# Altium integrated library TI_Logic_Flip-Flop,Latch,Register.IntLib: 2598 symbols (part 69 of 122)
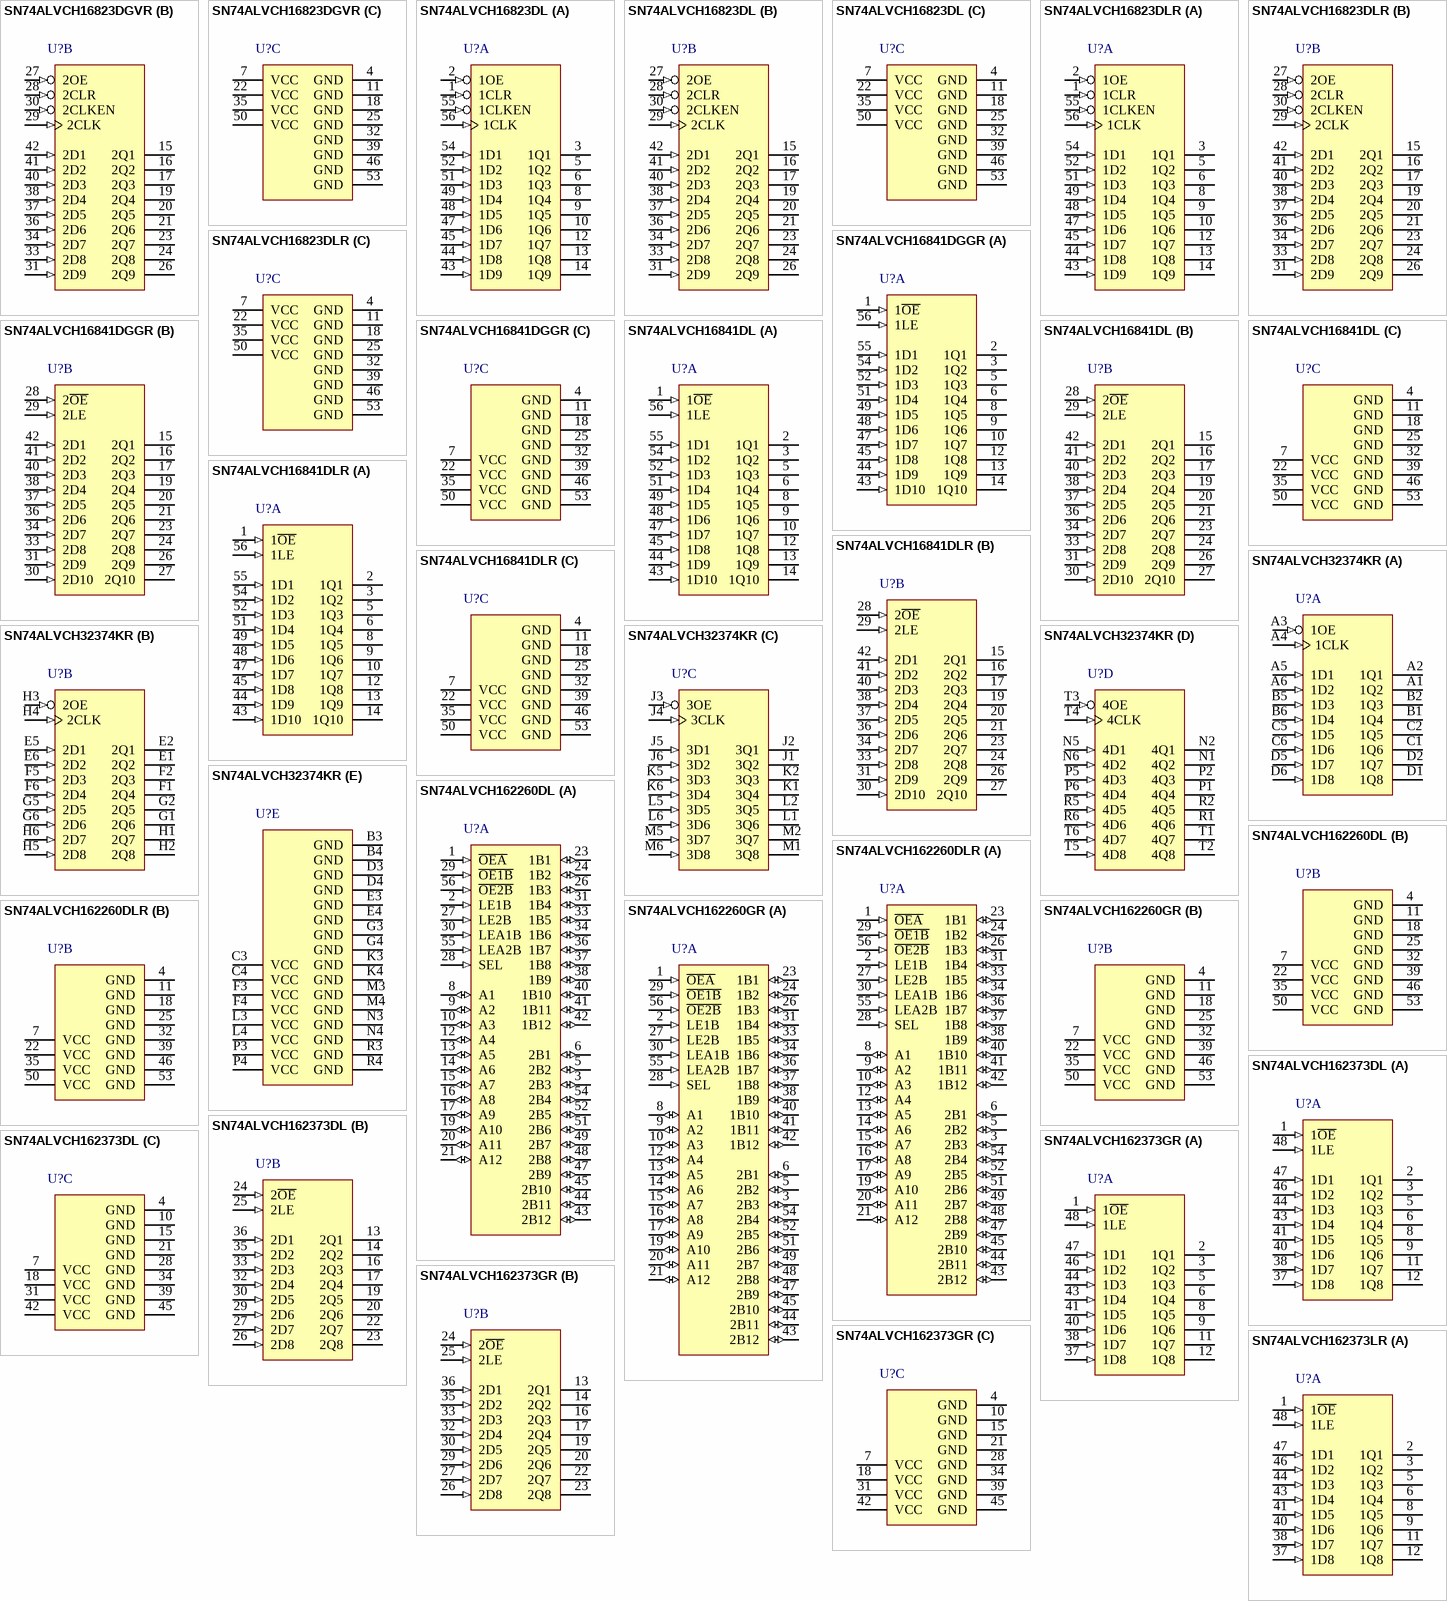
[diagram p207: symbols SN74ALVCH16823DGVR to SN74ALVCH162373LR]

## SN74ALVCH16841DLR
designator U?
20-Bit Bus-Interface D-Type Latch With 3-State Outputs, DL0056A, LARGE T&R; Generic Part Number: SN74ALVCH16841; Manufacturer: Texas Instruments; PartNumber: SN74ALVCH16841DLR; VCC(Min)(V): 1.65; VCC(Max)(V): 3.6; Output Type: LVTTL; Logic: True; Static Current: 0.04; Bits(#): 20; F @ Nom Voltage(Max)(Mhz): 150; Rating: Catalog; Technology Family: ALVC; Voltage(Nom)(V): 1.8,2.5,2.7,3.3; Schmitt Trigger: No; Output Drive (IOL/IOH)(Max)(mA): 24/-24; Output Logic: Non-inverted; 3-State Output: Yes; tpd @ Nom Voltage(Max)(ns): 5,4.7,3.9; DatasheetVersion: SCES043E; PackageReference: DL0056A; Supplier 1: Digi-Key; Supplier Part Number 1: SN74ALVCH16841DLR-ND; Supplier 2: Mouser; Supplier Part Number 2: 595-74ALVCH16841DLR; ICC @ Nom Voltage(Max)(mA): 0.04; Input Type: LVTTL; Operating Temperature Range(C): -40 to 85; Code_JEDEC: MO-118; ComponentLink1Description: Manufacturer URL; ComponentLink1URL: http://www.ti.com/; ComponentLink2Description: Datasheet; ComponentLink2URL: http://www.ti.com/lit/ds/symlink/sn74alvch16841.pdf; ComponentLink3Description: Package Specification; ComponentLink3URL: http://www.ti.com/lit/ml/mpds491/mpds491.pdf
footprint DL0056A_N (SOP, 56-Leads, Body 7.6x18.5mm, Pitch 0.635mm, IPC Medium Density)
footprint DL0056A_M (SOP, 56-Leads, Body 7.6x18.5mm, Pitch 0.635mm, IPC Low Density)
footprint DL0056A_L (SOP, 56-Leads, Body 7.6x18.5mm, Pitch 0.635mm, IPC High Density)
part A pins: 1 1~{OE} (in) "Output Enable Input (Active LOW)", 2 1Q1 (hiz) "Three-State Outputs", 3 1Q2 (hiz) "Three-State Outputs", 5 1Q3 (hiz) "Three-State Outputs", 6 1Q4 (hiz) "Three-State Outputs", 8 1Q5 (hiz) "Three-State Outputs", 9 1Q6 (hiz) "Three-State Outputs", 10 1Q7 (hiz) "Three-State Outputs", 12 1Q8 (hiz) "Three-State Outputs", 13 1Q9 (hiz) "Three-State Outputs", 14 1Q10 (hiz) "Three-State Outputs", 43 1D10 (in) "Data Inputs", 44 1D9 (in) "Data Inputs", 45 1D8 (in) "Data Inputs", 47 1D7 (in) "Data Inputs", 48 1D6 (in) "Data Inputs", 49 1D5 (in) "Data Inputs", 51 1D4 (in) "Data Inputs", 52 1D3 (in) "Data Inputs", 54 1D2 (in) "Data Inputs", 55 1D1 (in) "Data Inputs", 56 1LE (in) "Latch Enable Input (Active HIGH)"
part B pins: 15 2Q1 (hiz) "Three-State Outputs", 16 2Q2 (hiz) "Three-State Outputs", 17 2Q3 (hiz) "Three-State Outputs", 19 2Q4 (hiz) "Three-State Outputs", 20 2Q5 (hiz) "Three-State Outputs", 21 2Q6 (hiz) "Three-State Outputs", 23 2Q7 (hiz) "Three-State Outputs", 24 2Q8 (hiz) "Three-State Outputs", 26 2Q9 (hiz) "Three-State Outputs", 27 2Q10 (hiz) "Three-State Outputs", 28 2~{OE} (in) "Output Enable Input (Active LOW)", 29 2LE (in) "Latch Enable Input (Active HIGH)", 30 2D10 (in) "Data Inputs", 31 2D9 (in) "Data Inputs", 33 2D8 (in) "Data Inputs", 34 2D7 (in) "Data Inputs", 36 2D6 (in) "Data Inputs", 37 2D5 (in) "Data Inputs", 38 2D4 (in) "Data Inputs", 40 2D3 (in) "Data Inputs", 41 2D2 (in) "Data Inputs", 42 2D1 (in) "Data Inputs"
part C pins: 4 GND (power), 7 VCC (power), 11 GND (power), 18 GND (power), 22 VCC (power), 25 GND (power), 32 GND (power), 35 VCC (power), 39 GND (power), 46 GND (power), 50 VCC (power), 53 GND (power)

## SN74ALVCH32374KR
designator U?
32-Bit Edge-Triggered D-Type Flip-Flop With 3-State Outputs, GKE0096A, LARGE T&R; Generic Part Number: SN74ALVCH32374; Manufacturer: Texas Instruments; PartNumber: SN74ALVCH32374KR; DatasheetVersion: SCES283D; PackageReference: GKE0096A; Supplier 1: Digi-Key; Supplier Part Number 1: 296-6281-2-ND; Supplier 2: Digi-Key; Supplier Part Number 2: 296-6281-1-ND; Supplier 3: Mouser; Supplier Part Number 3: 595-SN74ALVCH32374KR; Code_JEDEC: MO-205; ComponentLink1Description: Manufacturer URL; ComponentLink1URL: http://www.ti.com/; ComponentLink2Description: Datasheet; ComponentLink2URL: http://www.ti.com/lit/ds/symlink/sn74alvch32374.pdf; ComponentLink3Description: Package Specification; ComponentLink3URL: http://www.ti.com/lit/ml/mpbg095d/mpbg095d.pdf
footprint GKE0096A (BGA, 96-Balls, Body 13.5x5.5mm, Pitch 0.8mm)
part A pins: A1 1Q2 (hiz), A2 1Q1 (hiz), A3 1OE (in), A4 1CLK (in), A5 1D1 (in), A6 1D2 (in), B1 1Q4 (hiz), B2 1Q3 (hiz), B5 1D3 (in), B6 1D4 (in), C1 1Q6 (hiz), C2 1Q5 (hiz), C5 1D5 (in), C6 1D6 (in), D1 1Q8 (hiz), D2 1Q7 (hiz), D5 1D7 (in), D6 1D8 (in)
part B pins: E1 2Q2 (hiz), E2 2Q1 (hiz), E5 2D1 (in), E6 2D2 (in), F1 2Q4 (hiz), F2 2Q3 (hiz), F5 2D3 (in), F6 2D4 (in), G1 2Q6 (hiz), G2 2Q5 (hiz), G5 2D5 (in), G6 2D6 (in), H1 2Q7 (hiz), H2 2Q8 (hiz), H3 2OE (in), H4 2CLK (in), H5 2D8 (in), H6 2D7 (in)
part C pins: J1 3Q2 (hiz), J2 3Q1 (hiz), J3 3OE (in), J4 3CLK (in), J5 3D1 (in), J6 3D2 (in), K1 3Q4 (hiz), K2 3Q3 (hiz), K5 3D3 (in), K6 3D4 (in), L1 3Q6 (hiz), L2 3Q5 (hiz), L5 3D5 (in), L6 3D6 (in), M1 3Q8 (hiz), M2 3Q7 (hiz), M5 3D7 (in), M6 3D8 (in)
part D pins: N1 4Q2 (hiz), N2 4Q1 (hiz), N5 4D1 (in), N6 4D2 (in), P1 4Q4 (hiz), P2 4Q3 (hiz), P5 4D3 (in), P6 4D4 (in), R1 4Q6 (hiz), R2 4Q5 (hiz), R5 4D5 (in), R6 4D6 (in), T1 4Q7 (hiz), T2 4Q8 (hiz), T3 4OE (in), T4 4CLK (in), T5 4D8 (in), T6 4D7 (in)
part E pins: B3 GND (power), B4 GND (power), C3 VCC (power), C4 VCC (power), D3 GND (power), D4 GND (power), E3 GND (power), E4 GND (power), F3 VCC (power), F4 VCC (power), G3 GND (power), G4 GND (power), K3 GND (power), K4 GND (power), L3 VCC (power), L4 VCC (power), M3 GND (power), M4 GND (power), N3 GND (power), N4 GND (power), P3 VCC (power), P4 VCC (power), R3 GND (power), R4 GND (power)

## SN74ALVCH162260DL
designator U?
12-Bit To 24-Bit Multiplexed D-Type Latch With 3-State Outputs, DL0056A, TUBE; Generic Part Number: SN74ALVCH162260; Manufacturer: Texas Instruments; PartNumber: SN74ALVCH162260DL; VCC(Min)(V): 1.65; VCC(Max)(V): 3.6; Output Type: LVTTL; Logic: True; Static Current: 0.04; Bits(#): 12; F @ Nom Voltage(Max)(Mhz): 150; Rating: Catalog; Technology Family: ALVC; Voltage(Nom)(V): 1.8,2.5,2.7,3.3; Schmitt Trigger: No; Output Drive (IOL/IOH)(Max)(mA): 24/-24; Output Logic: Non-inverted; 3-State Output: Yes; tpd @ Nom Voltage(Max)(ns): 5.9,5.8,4.9; DatasheetVersion: SCAS570I; PackageReference: DL0056A; Supplier 1: Digi-Key; Supplier Part Number 1: 296-5176-5-ND; Supplier 2: Mouser; Supplier Part Number 2: 595-74ALVCH162260DL; ICC @ Nom Voltage(Max)(mA): 0.04; Input Type: LVTTL; Operating Temperature Range(C): -40 to 85; Code_JEDEC: MO-118; ComponentLink1Description: Manufacturer URL; ComponentLink1URL: http://www.ti.com/; ComponentLink2Description: Datasheet; ComponentLink2URL: http://www.ti.com/lit/ds/symlink/sn74alvch162260.pdf; ComponentLink3Description: Package Specification; ComponentLink3URL: http://www.ti.com/lit/ml/mpds491/mpds491.pdf
footprint DL0056A_N (SOP, 56-Leads, Body 7.6x18.5mm, Pitch 0.635mm, IPC Medium Density)
footprint DL0056A_M (SOP, 56-Leads, Body 7.6x18.5mm, Pitch 0.635mm, IPC Low Density)
footprint DL0056A_L (SOP, 56-Leads, Body 7.6x18.5mm, Pitch 0.635mm, IPC High Density)
part A pins: 1 ~{OEA} (in), 2 LE1B (in), 3 2B3 (io), 5 2B2 (io), 6 2B1 (io), 8 A1 (io), 9 A2 (io), 10 A3 (io), 12 A4 (io), 13 A5 (io), 14 A6 (io), 15 A7 (io), 16 A8 (io), 17 A9 (io), 19 A10 (io), 20 A11 (io), 21 A12 (io), 23 1B1 (io), 24 1B2 (io), 26 1B3 (io), 27 LE2B (in), 28 SEL (in), 29 ~{OE1B} (in), 30 LEA1B (in), 31 1B4 (io), 33 1B5 (io), 34 1B6 (io), 36 1B7 (io), 37 1B8 (io), 38 1B9 (io), 40 1B10 (io), 41 1B11 (io), 42 1B12 (io), 43 2B12 (io), 44 2B11 (io), 45 2B10 (io), 47 2B9 (io), 48 2B8 (io), 49 2B7 (io), 51 2B6 (io), 52 2B5 (io), 54 2B4 (io), 55 LEA2B (in), 56 ~{OE2B} (in)
part B pins: 4 GND (power), 7 VCC (power), 11 GND (power), 18 GND (power), 22 VCC (power), 25 GND (power), 32 GND (power), 35 VCC (power), 39 GND (power), 46 GND (power), 50 VCC (power), 53 GND (power)

## SN74ALVCH162260DLR
designator U?
12-Bit To 24-Bit Multiplexed D-Type Latch With 3-State Outputs, DL0056A, LARGE T&R; Generic Part Number: SN74ALVCH162260; Manufacturer: Texas Instruments; PartNumber: SN74ALVCH162260DLR; VCC(Min)(V): 1.65; VCC(Max)(V): 3.6; Output Type: LVTTL; Logic: True; Static Current: 0.04; Bits(#): 12; F @ Nom Voltage(Max)(Mhz): 150; Rating: Catalog; Technology Family: ALVC; Voltage(Nom)(V): 1.8,2.5,2.7,3.3; Schmitt Trigger: No; Output Drive (IOL/IOH)(Max)(mA): 24/-24; Output Logic: Non-inverted; 3-State Output: Yes; tpd @ Nom Voltage(Max)(ns): 5.9,5.8,4.9; DatasheetVersion: SCAS570I; PackageReference: DL0056A; Supplier 1: Digi-Key; Supplier Part Number 1: SN74ALVCH162260DLR-ND; Supplier 2: Mouser; Supplier Part Number 2: 595-ALVCH162260DLR; ICC @ Nom Voltage(Max)(mA): 0.04; Input Type: LVTTL; Operating Temperature Range(C): -40 to 85; Code_JEDEC: MO-118; ComponentLink1Description: Manufacturer URL; ComponentLink1URL: http://www.ti.com/; ComponentLink2Description: Datasheet; ComponentLink2URL: http://www.ti.com/lit/ds/symlink/sn74alvch162260.pdf; ComponentLink3Description: Package Specification; ComponentLink3URL: http://www.ti.com/lit/ml/mpds491/mpds491.pdf
footprint DL0056A_N (SOP, 56-Leads, Body 7.6x18.5mm, Pitch 0.635mm, IPC Medium Density)
footprint DL0056A_M (SOP, 56-Leads, Body 7.6x18.5mm, Pitch 0.635mm, IPC Low Density)
footprint DL0056A_L (SOP, 56-Leads, Body 7.6x18.5mm, Pitch 0.635mm, IPC High Density)
part A pins: 1 ~{OEA} (in), 2 LE1B (in), 3 2B3 (io), 5 2B2 (io), 6 2B1 (io), 8 A1 (io), 9 A2 (io), 10 A3 (io), 12 A4 (io), 13 A5 (io), 14 A6 (io), 15 A7 (io), 16 A8 (io), 17 A9 (io), 19 A10 (io), 20 A11 (io), 21 A12 (io), 23 1B1 (io), 24 1B2 (io), 26 1B3 (io), 27 LE2B (in), 28 SEL (in), 29 ~{OE1B} (in), 30 LEA1B (in), 31 1B4 (io), 33 1B5 (io), 34 1B6 (io), 36 1B7 (io), 37 1B8 (io), 38 1B9 (io), 40 1B10 (io), 41 1B11 (io), 42 1B12 (io), 43 2B12 (io), 44 2B11 (io), 45 2B10 (io), 47 2B9 (io), 48 2B8 (io), 49 2B7 (io), 51 2B6 (io), 52 2B5 (io), 54 2B4 (io), 55 LEA2B (in), 56 ~{OE2B} (in)
part B pins: 4 GND (power), 7 VCC (power), 11 GND (power), 18 GND (power), 22 VCC (power), 25 GND (power), 32 GND (power), 35 VCC (power), 39 GND (power), 46 GND (power), 50 VCC (power), 53 GND (power)

## SN74ALVCH162260GR
designator U?
12-Bit To 24-Bit Multiplexed D-Type Latch With 3-State Outputs, DGG0056A, LARGE T&R; Generic Part Number: SN74ALVCH162260; Manufacturer: Texas Instruments; PartNumber: SN74ALVCH162260GR; VCC(Min)(V): 1.65; VCC(Max)(V): 3.6; Output Type: LVTTL; Logic: True; Static Current: 0.04; Bits(#): 12; F @ Nom Voltage(Max)(Mhz): 150; Rating: Catalog; Technology Family: ALVC; Voltage(Nom)(V): 1.8,2.5,2.7,3.3; Schmitt Trigger: No; Output Drive (IOL/IOH)(Max)(mA): 24/-24; Output Logic: Non-inverted; 3-State Output: Yes; tpd @ Nom Voltage(Max)(ns): 5.9,5.8,4.9; DatasheetVersion: SCAS570I; PackageReference: DGG0056A; Supplier 1: Digi-Key; Supplier Part Number 1: 296-1138-2-ND; Supplier 2: Digi-Key; Supplier Part Number 2: 296-1138-1-ND; Supplier 3: Digi-Key; Supplier Part Number 3: 296-1138-6-ND; Supplier 4: Mouser; Supplier Part Number 4: 595-74ALVCH162260GR; ICC @ Nom Voltage(Max)(mA): 0.04; Input Type: LVTTL; Operating Temperature Range(C): -40 to 85; Code_JEDEC: MO-153; ComponentLink1Description: Manufacturer URL; ComponentLink1URL: http://www.ti.com/; ComponentLink2Description: Datasheet; ComponentLink2URL: http://www.ti.com/lit/ds/symlink/sn74alvch162260.pdf; ComponentLink3Description: Package Specification; ComponentLink3URL: http://www.ti.com/lit/ml/mtss003d/mtss003d.pdf
footprint DGG0056A_N (TSSOP, 56-Leads, Body 14.1x6.2mm, Pitch 0.5mm, IPC Medium Density)
footprint DGG0056A_M (TSSOP, 56-Leads, Body 14.1x6.2mm, Pitch 0.5mm, IPC Low Density)
footprint DGG0056A_L (TSSOP, 56-Leads, Body 14.1x6.2mm, Pitch 0.5mm, IPC High Density)
part A pins: 1 ~{OEA} (in), 2 LE1B (in), 3 2B3 (io), 5 2B2 (io), 6 2B1 (io), 8 A1 (io), 9 A2 (io), 10 A3 (io), 12 A4 (io), 13 A5 (io), 14 A6 (io), 15 A7 (io), 16 A8 (io), 17 A9 (io), 19 A10 (io), 20 A11 (io), 21 A12 (io), 23 1B1 (io), 24 1B2 (io), 26 1B3 (io), 27 LE2B (in), 28 SEL (in), 29 ~{OE1B} (in), 30 LEA1B (in), 31 1B4 (io), 33 1B5 (io), 34 1B6 (io), 36 1B7 (io), 37 1B8 (io), 38 1B9 (io), 40 1B10 (io), 41 1B11 (io), 42 1B12 (io), 43 2B12 (io), 44 2B11 (io), 45 2B10 (io), 47 2B9 (io), 48 2B8 (io), 49 2B7 (io), 51 2B6 (io), 52 2B5 (io), 54 2B4 (io), 55 LEA2B (in), 56 ~{OE2B} (in)
part B pins: 4 GND (power), 7 VCC (power), 11 GND (power), 18 GND (power), 22 VCC (power), 25 GND (power), 32 GND (power), 35 VCC (power), 39 GND (power), 46 GND (power), 50 VCC (power), 53 GND (power)

## SN74ALVCH162373DL
designator U?
16-Bit Transparent D-Type Latch with 3-State Outputs, DL0048A, TUBE; Generic Part Number: SN74ALVCH162373; Manufacturer: Texas Instruments; PartNumber: SN74ALVCH162373DL; VCC(Min)(V): 1.65; VCC(Max)(V): 3.6; Output Type: LVTTL; Logic: True; Static Current: 0.04; Bits(#): 16; F @ Nom Voltage(Max)(Mhz): 150; Rating: Catalog; Technology Family: ALVC; Voltage(Nom)(V): 1.8,2.5,2.7,3.3; Schmitt Trigger: No; Output Drive (IOL/IOH)(Max)(mA): 12/-12; Output Logic: Non-inverted; 3-State Output: Yes; tpd @ Nom Voltage(Max)(ns): 6.3,5.3,4.5,4; DatasheetVersion: SCES583A; PackageReference: DL0048A; Supplier 1: Digi-Key; Supplier Part Number 1: SN74ALVCH162373DL-ND; Supplier 2: Mouser; Supplier Part Number 2: 595-74ALVCH162373DL; ICC @ Nom Voltage(Max)(mA): 0.04; Input Type: LVTTL; Operating Temperature Range(C): -40 to 85; Code_JEDEC: MO-118; ComponentLink1Description: Manufacturer URL; ComponentLink1URL: http://www.ti.com/; ComponentLink2Description: Datasheet; ComponentLink2URL: http://www.ti.com/lit/ds/symlink/sn74alvch162373.pdf; ComponentLink3Description: Package Specification; ComponentLink3URL: http://www.ti.com/lit/ml/mpds490/mpds490.pdf
footprint DL0048A_N (SOP, 48-Leads, Body 7.6x16mm, Pitch 0.635mm, IPC Medium Density)
footprint DL0048A_M (SOP, 48-Leads, Body 7.6x16mm, Pitch 0.635mm, IPC Low Density)
footprint DL0048A_L (SOP, 48-Leads, Body 7.6x16mm, Pitch 0.635mm, IPC High Density)
part A pins: 1 1~{OE} (in) "Output Enable 1", 2 1Q1 (hiz) "1Q1 Output", 3 1Q2 (hiz) "1Q2 Output", 5 1Q3 (hiz) "1Q3 Output", 6 1Q4 (hiz) "1Q4 Output", 8 1Q5 (hiz) "1Q5 Output", 9 1Q6 (hiz) "1Q6 Output", 11 1Q7 (hiz) "1Q7 Output", 12 1Q8 (hiz) "1Q8 Output", 37 1D8 (in) "1D8 Input", 38 1D7 (in) "1D7 Input", 40 1D6 (in) "1D6 Input", 41 1D5 (in) "1D5 Input", 43 1D4 (in) "1D4 Input", 44 1D3 (in) "1D3 Input", 46 1D2 (in) "1D2 Input", 47 1D1 (in) "1D1 Input", 48 1LE (in) "Latch Enable 1"
part B pins: 13 2Q1 (hiz) "2Q1 Output", 14 2Q2 (hiz) "2Q2 Output", 16 2Q3 (hiz) "2Q3 Output", 17 2Q4 (hiz) "2Q4 Output", 19 2Q5 (hiz) "Output", 20 2Q6 (hiz) "2Q6 Output", 22 2Q7 (hiz) "2Q7 Output", 23 2Q8 (hiz) "2Q8 Output", 24 2~{OE} (in) "Output Enable 2", 25 2LE (in) "2LE Input", 26 2D8 (in) "2D8 Input", 27 2D7 (in) "2D7 Input", 29 2D6 (in) "2D6 Input", 30 2D5 (in) "2D5 Input", 32 2D4 (in) "2D4 Input", 33 2D3 (in) "2D3 Input", 35 2D2 (in) "2D2 Input", 36 2D1 (in) "2D1 Input"
part C pins: 4 GND (power) "Ground Pin", 7 VCC (power) "Power Pin", 10 GND (power) "Ground Pin", 15 GND (power) "Ground Pin", 18 VCC (power) "Power Pin", 21 GND (power) "Ground Pin", 28 GND (power) "Ground Pin", 31 VCC (power) "Power Pin", 34 GND (power) "Ground Pin", 39 GND (power) "Ground Pin", 42 VCC (power) "Power Pin", 45 GND (power) "Ground Pin"

## SN74ALVCH162373GR
designator U?
16-Bit Transparent D-Type Latch with 3-State Outputs, DGG0048A, LARGE T&R; Generic Part Number: SN74ALVCH162373; Manufacturer: Texas Instruments; PartNumber: SN74ALVCH162373GR; VCC(Min)(V): 1.65; VCC(Max)(V): 3.6; Output Type: LVTTL; Logic: True; Static Current: 0.04; Bits(#): 16; F @ Nom Voltage(Max)(Mhz): 150; Rating: Catalog; Technology Family: ALVC; Voltage(Nom)(V): 1.8,2.5,2.7,3.3; Schmitt Trigger: No; Output Drive (IOL/IOH)(Max)(mA): 12/-12; Output Logic: Non-inverted; 3-State Output: Yes; tpd @ Nom Voltage(Max)(ns): 6.3,5.3,4.5,4; DatasheetVersion: SCES583A; PackageReference: DGG0048A; Supplier 1: Digi-Key; Supplier Part Number 1: 296-18538-2-ND; Supplier 2: Digi-Key; Supplier Part Number 2: 296-18538-1-ND; Supplier 3: Digi-Key; Supplier Part Number 3: 296-18538-6-ND; Supplier 4: Farnell; Supplier Part Number 4: 1494923; Supplier 5: Farnell; Supplier Part Number 5: 1494923RL; Supplier 6: Newark; Supplier Part Number 6: 61M9932; Supplier 7: Mouser; Supplier Part Number 7: 595-SN74ALVCH162373G; ICC @ Nom Voltage(Max)(mA): 0.04; Input Type: LVTTL; Operating Temperature Range(C): -40 to 85; Code_JEDEC: MO-153; ComponentLink1Description: Manufacturer URL; ComponentLink1URL: http://www.ti.com/; ComponentLink2Description: Datasheet; ComponentLink2URL: http://www.ti.com/lit/ds/symlink/sn74alvch162373.pdf; ComponentLink3Description: Package Specification; ComponentLink3URL: http://www.ti.com/lit/ml/mtss003d/mtss003d.pdf
footprint DGG0048A_N (TSSOP, 48-Leads, Body 12.6x6.2mm, Pitch 0.5mm, IPC Medium Density)
footprint DGG0048A_M (TSSOP, 48-Leads, Body 12.6x6.2mm, Pitch 0.5mm, IPC Low Density)
footprint DGG0048A_L (TSSOP, 48-Leads, Body 12.6x6.2mm, Pitch 0.5mm, IPC High Density)
part A pins: 1 1~{OE} (in) "Output Enable 1", 2 1Q1 (hiz) "1Q1 Output", 3 1Q2 (hiz) "1Q2 Output", 5 1Q3 (hiz) "1Q3 Output", 6 1Q4 (hiz) "1Q4 Output", 8 1Q5 (hiz) "1Q5 Output", 9 1Q6 (hiz) "1Q6 Output", 11 1Q7 (hiz) "1Q7 Output", 12 1Q8 (hiz) "1Q8 Output", 37 1D8 (in) "1D8 Input", 38 1D7 (in) "1D7 Input", 40 1D6 (in) "1D6 Input", 41 1D5 (in) "1D5 Input", 43 1D4 (in) "1D4 Input", 44 1D3 (in) "1D3 Input", 46 1D2 (in) "1D2 Input", 47 1D1 (in) "1D1 Input", 48 1LE (in) "Latch Enable 1"
part B pins: 13 2Q1 (hiz) "2Q1 Output", 14 2Q2 (hiz) "2Q2 Output", 16 2Q3 (hiz) "2Q3 Output", 17 2Q4 (hiz) "2Q4 Output", 19 2Q5 (hiz) "Output", 20 2Q6 (hiz) "2Q6 Output", 22 2Q7 (hiz) "2Q7 Output", 23 2Q8 (hiz) "2Q8 Output", 24 2~{OE} (in) "Output Enable 2", 25 2LE (in) "2LE Input", 26 2D8 (in) "2D8 Input", 27 2D7 (in) "2D7 Input", 29 2D6 (in) "2D6 Input", 30 2D5 (in) "2D5 Input", 32 2D4 (in) "2D4 Input", 33 2D3 (in) "2D3 Input", 35 2D2 (in) "2D2 Input", 36 2D1 (in) "2D1 Input"
part C pins: 4 GND (power) "Ground Pin", 7 VCC (power) "Power Pin", 10 GND (power) "Ground Pin", 15 GND (power) "Ground Pin", 18 VCC (power) "Power Pin", 21 GND (power) "Ground Pin", 28 GND (power) "Ground Pin", 31 VCC (power) "Power Pin", 34 GND (power) "Ground Pin", 39 GND (power) "Ground Pin", 42 VCC (power) "Power Pin", 45 GND (power) "Ground Pin"

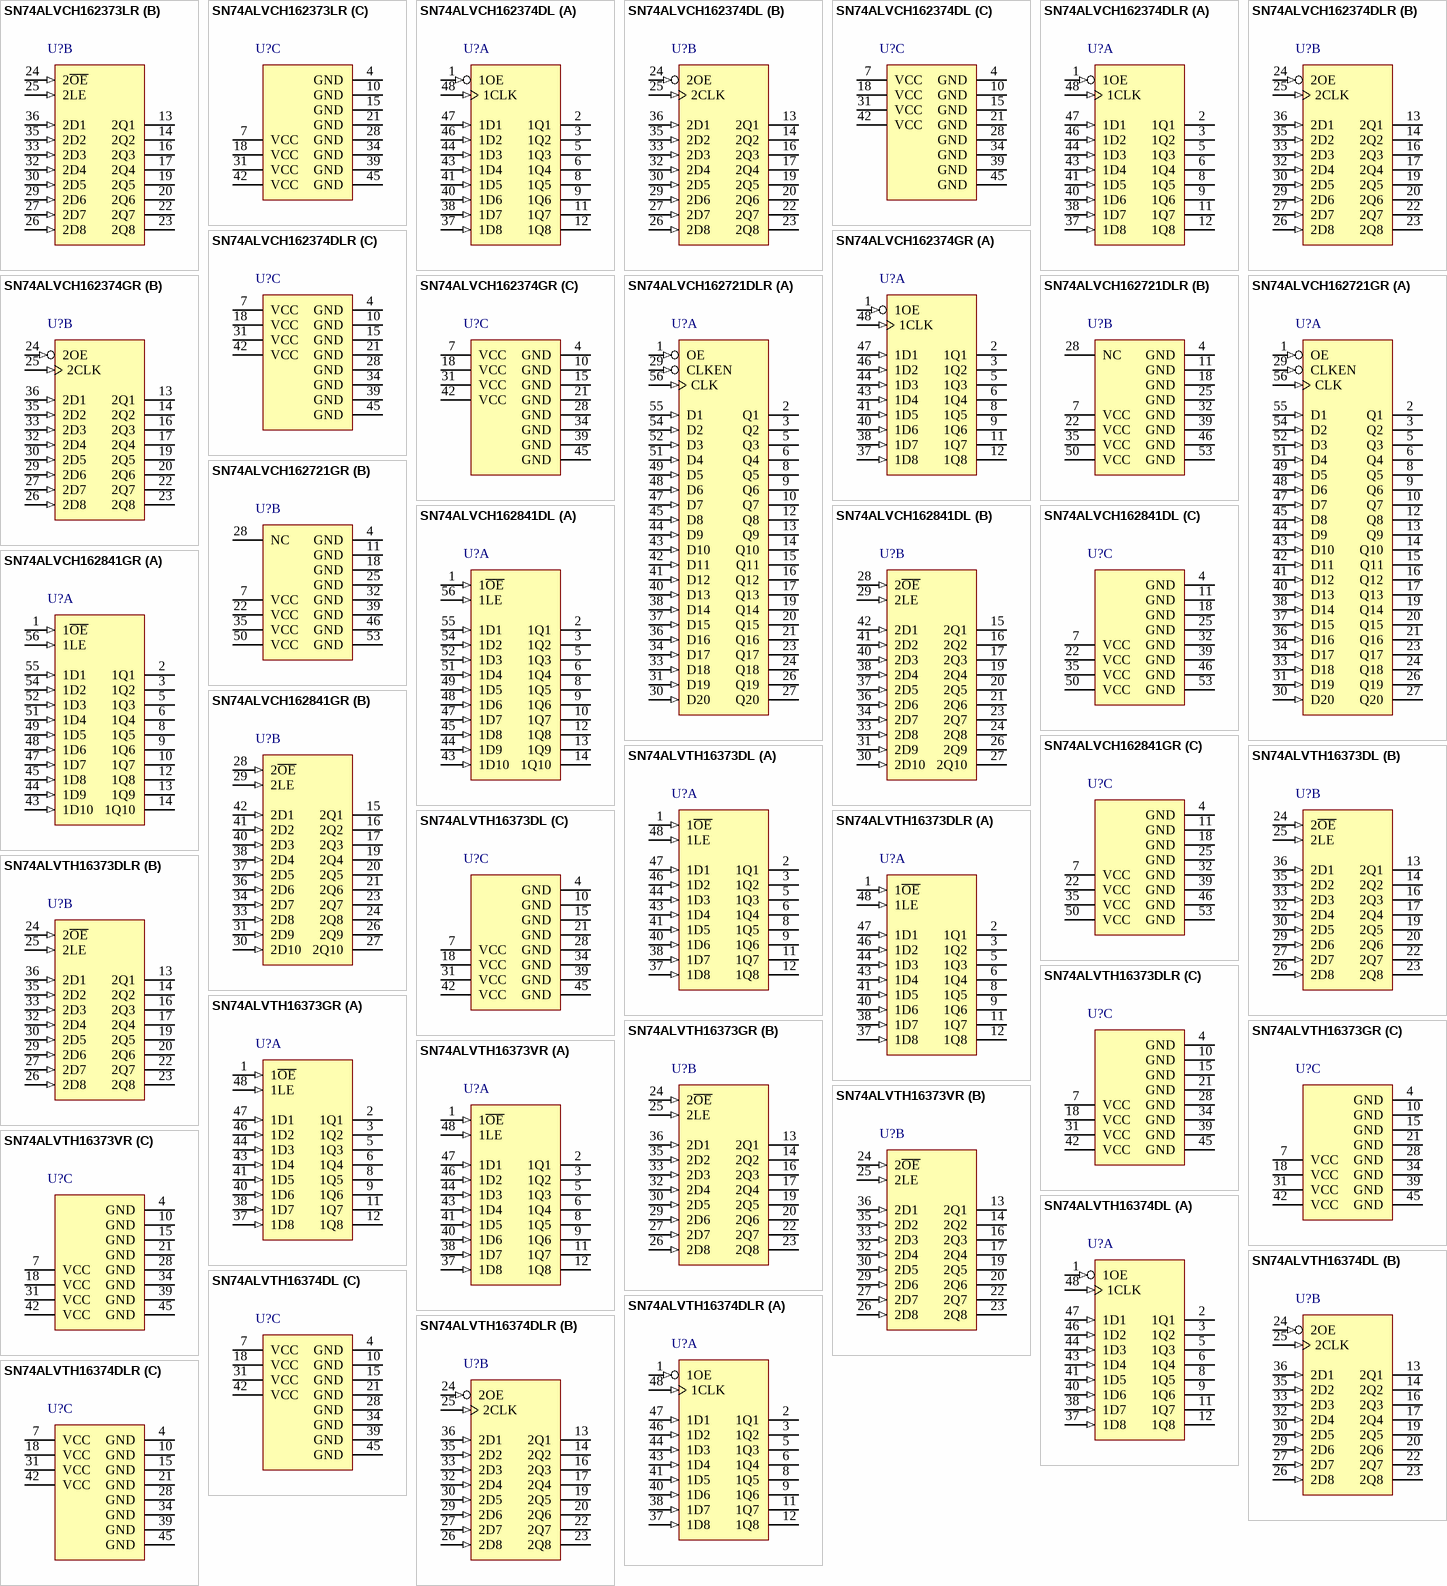
[diagram p80: symbols SN74ALVCH162373LR to SN74ALVTH16374DLR]

## SN74ALVCH162373LR
designator U?
16-Bit Transparent D-Type Latch with 3-State Outputs, DL0048A, LARGE T&R; Generic Part Number: SN74ALVCH162373; Manufacturer: Texas Instruments; PartNumber: SN74ALVCH162373LR; VCC(Min)(V): 1.65; VCC(Max)(V): 3.6; Output Type: LVTTL; Logic: True; Static Current: 0.04; Bits(#): 16; F @ Nom Voltage(Max)(Mhz): 150; Rating: Catalog; Technology Family: ALVC; Voltage(Nom)(V): 1.8,2.5,2.7,3.3; Schmitt Trigger: No; Output Drive (IOL/IOH)(Max)(mA): 12/-12; Output Logic: Non-inverted; 3-State Output: Yes; tpd @ Nom Voltage(Max)(ns): 6.3,5.3,4.5,4; DatasheetVersion: SCES583A; PackageReference: DL0048A; Supplier 1: Digi-Key; Supplier Part Number 1: 296-18540-2-ND; Supplier 2: Digi-Key; Supplier Part Number 2: 296-18540-1-ND; Supplier 3: Digi-Key; Supplier Part Number 3: 296-18540-6-ND; Supplier 4: Mouser; Supplier Part Number 4: 595-SN74ALVC162373LR; ICC @ Nom Voltage(Max)(mA): 0.04; Input Type: LVTTL; Operating Temperature Range(C): -40 to 85; Code_JEDEC: MO-118; ComponentLink1Description: Manufacturer URL; ComponentLink1URL: http://www.ti.com/; ComponentLink2Description: Datasheet; ComponentLink2URL: http://www.ti.com/lit/ds/symlink/sn74alvch162373.pdf; ComponentLink3Description: Package Specification; ComponentLink3URL: http://www.ti.com/lit/ml/mpds490/mpds490.pdf
footprint DL0048A_N (SOP, 48-Leads, Body 7.6x16mm, Pitch 0.635mm, IPC Medium Density)
footprint DL0048A_M (SOP, 48-Leads, Body 7.6x16mm, Pitch 0.635mm, IPC Low Density)
footprint DL0048A_L (SOP, 48-Leads, Body 7.6x16mm, Pitch 0.635mm, IPC High Density)
part A pins: 1 1~{OE} (in) "Output Enable 1", 2 1Q1 (hiz) "1Q1 Output", 3 1Q2 (hiz) "1Q2 Output", 5 1Q3 (hiz) "1Q3 Output", 6 1Q4 (hiz) "1Q4 Output", 8 1Q5 (hiz) "1Q5 Output", 9 1Q6 (hiz) "1Q6 Output", 11 1Q7 (hiz) "1Q7 Output", 12 1Q8 (hiz) "1Q8 Output", 37 1D8 (in) "1D8 Input", 38 1D7 (in) "1D7 Input", 40 1D6 (in) "1D6 Input", 41 1D5 (in) "1D5 Input", 43 1D4 (in) "1D4 Input", 44 1D3 (in) "1D3 Input", 46 1D2 (in) "1D2 Input", 47 1D1 (in) "1D1 Input", 48 1LE (in) "Latch Enable 1"
part B pins: 13 2Q1 (hiz) "2Q1 Output", 14 2Q2 (hiz) "2Q2 Output", 16 2Q3 (hiz) "2Q3 Output", 17 2Q4 (hiz) "2Q4 Output", 19 2Q5 (hiz) "Output", 20 2Q6 (hiz) "2Q6 Output", 22 2Q7 (hiz) "2Q7 Output", 23 2Q8 (hiz) "2Q8 Output", 24 2~{OE} (in) "Output Enable 2", 25 2LE (in) "2LE Input", 26 2D8 (in) "2D8 Input", 27 2D7 (in) "2D7 Input", 29 2D6 (in) "2D6 Input", 30 2D5 (in) "2D5 Input", 32 2D4 (in) "2D4 Input", 33 2D3 (in) "2D3 Input", 35 2D2 (in) "2D2 Input", 36 2D1 (in) "2D1 Input"
part C pins: 4 GND (power) "Ground Pin", 7 VCC (power) "Power Pin", 10 GND (power) "Ground Pin", 15 GND (power) "Ground Pin", 18 VCC (power) "Power Pin", 21 GND (power) "Ground Pin", 28 GND (power) "Ground Pin", 31 VCC (power) "Power Pin", 34 GND (power) "Ground Pin", 39 GND (power) "Ground Pin", 42 VCC (power) "Power Pin", 45 GND (power) "Ground Pin"

## SN74ALVCH162374DL
designator U?
16-Bit Edge-Triggered D-Type Flip-Flop With 3-State Outputs, DL0048A, TUBE; Generic Part Number: SN74ALVCH162374; Manufacturer: Texas Instruments; PartNumber: SN74ALVCH162374DL; VCC(Min)(V): 1.65; VCC(Max)(V): 3.6; Output Type: LVTTL,CMOS; ICC @ Nom Voltage(Max)(mA): 0.04; Bits(#): 16; F @ Nom Voltage(Max)(Mhz): 150; Rating: Catalog; Technology Family: ALVC; Voltage(Nom)(V): 1.8,2.5,2.7,3.3; Schmitt Trigger: No; Output Drive (IOL/IOH)(Max)(mA): 12/-12; Output Logic: Non-inverted; 3-State Output: Yes; tpd @ Nom Voltage(Max)(ns): 5.4,4.6; DatasheetVersion: SCES092F; PackageReference: DL0048A; Supplier 1: Digi-Key; Supplier Part Number 1: 296-5183-5-ND; Supplier 2: Farnell; Supplier Part Number 2: 1752894; Supplier 3: Mouser; Supplier Part Number 3: 595-SNALVCH162374DL; Input Type: LVTTL,CMOS; Operating Temperature Range(C): -40 to 85; Code_JEDEC: MO-118; ComponentLink1Description: Manufacturer URL; ComponentLink1URL: http://www.ti.com/; ComponentLink2Description: Datasheet; ComponentLink2URL: http://www.ti.com/lit/ds/symlink/sn74alvch162374.pdf; ComponentLink3Description: Package Specification; ComponentLink3URL: http://www.ti.com/lit/ml/mpds490/mpds490.pdf
footprint DL0048A_N (SOP, 48-Leads, Body 7.6x16mm, Pitch 0.635mm, IPC Medium Density)
footprint DL0048A_M (SOP, 48-Leads, Body 7.6x16mm, Pitch 0.635mm, IPC Low Density)
footprint DL0048A_L (SOP, 48-Leads, Body 7.6x16mm, Pitch 0.635mm, IPC High Density)
part A pins: 1 1OE (in), 2 1Q1 (hiz), 3 1Q2 (hiz), 5 1Q3 (hiz), 6 1Q4 (hiz), 8 1Q5 (hiz), 9 1Q6 (hiz), 11 1Q7 (hiz), 12 1Q8 (hiz), 37 1D8 (in), 38 1D7 (in), 40 1D6 (in), 41 1D5 (in), 43 1D4 (in), 44 1D3 (in), 46 1D2 (in), 47 1D1 (in), 48 1CLK (in)
part B pins: 13 2Q1 (hiz), 14 2Q2 (hiz), 16 2Q3 (hiz), 17 2Q4 (hiz), 19 2Q5 (hiz), 20 2Q6 (hiz), 22 2Q7 (hiz), 23 2Q8 (hiz), 24 2OE (in), 25 2CLK (in), 26 2D8 (in), 27 2D7 (in), 29 2D6 (in), 30 2D5 (in), 32 2D4 (in), 33 2D3 (in), 35 2D2 (in), 36 2D1 (in)
part C pins: 4 GND (power), 7 VCC (power), 10 GND (power), 15 GND (power), 18 VCC (power), 21 GND (power), 28 GND (power), 31 VCC (power), 34 GND (power), 39 GND (power), 42 VCC (power), 45 GND (power)

## SN74ALVCH162374DLR
designator U?
16-Bit Edge-Triggered D-Type Flip-Flop With 3-State Outputs, DL0048A, LARGE T&R; Generic Part Number: SN74ALVCH162374; Manufacturer: Texas Instruments; PartNumber: SN74ALVCH162374DLR; VCC(Min)(V): 1.65; VCC(Max)(V): 3.6; Output Type: LVTTL,CMOS; ICC @ Nom Voltage(Max)(mA): 0.04; Bits(#): 16; F @ Nom Voltage(Max)(Mhz): 150; Rating: Catalog; Technology Family: ALVC; Voltage(Nom)(V): 1.8,2.5,2.7,3.3; Schmitt Trigger: No; Output Drive (IOL/IOH)(Max)(mA): 12/-12; Output Logic: Non-inverted; 3-State Output: Yes; tpd @ Nom Voltage(Max)(ns): 5.4,4.6; DatasheetVersion: SCES092F; PackageReference: DL0048A; Supplier 1: Digi-Key; Supplier Part Number 1: SN74ALVCH162374DLR-ND; Supplier 2: Mouser; Supplier Part Number 2: 595-SN74ALVCH16237LR; Input Type: LVTTL,CMOS; Operating Temperature Range(C): -40 to 85; Code_JEDEC: MO-118; ComponentLink1Description: Manufacturer URL; ComponentLink1URL: http://www.ti.com/; ComponentLink2Description: Datasheet; ComponentLink2URL: http://www.ti.com/lit/ds/symlink/sn74alvch162374.pdf; ComponentLink3Description: Package Specification; ComponentLink3URL: http://www.ti.com/lit/ml/mpds490/mpds490.pdf
footprint DL0048A_N (SOP, 48-Leads, Body 7.6x16mm, Pitch 0.635mm, IPC Medium Density)
footprint DL0048A_M (SOP, 48-Leads, Body 7.6x16mm, Pitch 0.635mm, IPC Low Density)
footprint DL0048A_L (SOP, 48-Leads, Body 7.6x16mm, Pitch 0.635mm, IPC High Density)
part A pins: 1 1OE (in), 2 1Q1 (hiz), 3 1Q2 (hiz), 5 1Q3 (hiz), 6 1Q4 (hiz), 8 1Q5 (hiz), 9 1Q6 (hiz), 11 1Q7 (hiz), 12 1Q8 (hiz), 37 1D8 (in), 38 1D7 (in), 40 1D6 (in), 41 1D5 (in), 43 1D4 (in), 44 1D3 (in), 46 1D2 (in), 47 1D1 (in), 48 1CLK (in)
part B pins: 13 2Q1 (hiz), 14 2Q2 (hiz), 16 2Q3 (hiz), 17 2Q4 (hiz), 19 2Q5 (hiz), 20 2Q6 (hiz), 22 2Q7 (hiz), 23 2Q8 (hiz), 24 2OE (in), 25 2CLK (in), 26 2D8 (in), 27 2D7 (in), 29 2D6 (in), 30 2D5 (in), 32 2D4 (in), 33 2D3 (in), 35 2D2 (in), 36 2D1 (in)
part C pins: 4 GND (power), 7 VCC (power), 10 GND (power), 15 GND (power), 18 VCC (power), 21 GND (power), 28 GND (power), 31 VCC (power), 34 GND (power), 39 GND (power), 42 VCC (power), 45 GND (power)

## SN74ALVCH162374GR
designator U?
16-Bit Edge-Triggered D-Type Flip-Flop With 3-State Outputs, DGG0048A, LARGE T&R; Generic Part Number: SN74ALVCH162374; Manufacturer: Texas Instruments; PartNumber: SN74ALVCH162374GR; VCC(Min)(V): 1.65; VCC(Max)(V): 3.6; Output Type: LVTTL,CMOS; ICC @ Nom Voltage(Max)(mA): 0.04; Bits(#): 16; F @ Nom Voltage(Max)(Mhz): 150; Rating: Catalog; Technology Family: ALVC; Voltage(Nom)(V): 1.8,2.5,2.7,3.3; Schmitt Trigger: No; Output Drive (IOL/IOH)(Max)(mA): 12/-12; Output Logic: Non-inverted; 3-State Output: Yes; tpd @ Nom Voltage(Max)(ns): 5.4,4.6; DatasheetVersion: SCES092F; PackageReference: DGG0048A; Supplier 1: Digi-Key; Supplier Part Number 1: 296-5184-2-ND; Supplier 2: Digi-Key; Supplier Part Number 2: 296-5184-1-ND; Supplier 3: Digi-Key; Supplier Part Number 3: 296-5184-6-ND; Supplier 4: Newark; Supplier Part Number 4: 76C2270; Supplier 5: Mouser; Supplier Part Number 5: 595-SNALVCH162374GR; Input Type: LVTTL,CMOS; Operating Temperature Range(C): -40 to 85; Code_JEDEC: MO-153; ComponentLink1Description: Manufacturer URL; ComponentLink1URL: http://www.ti.com/; ComponentLink2Description: Datasheet; ComponentLink2URL: http://www.ti.com/lit/ds/symlink/sn74alvch162374.pdf; ComponentLink3Description: Package Specification; ComponentLink3URL: http://www.ti.com/lit/ml/mtss003d/mtss003d.pdf
footprint DGG0048A_N (TSSOP, 48-Leads, Body 12.6x6.2mm, Pitch 0.5mm, IPC Medium Density)
footprint DGG0048A_M (TSSOP, 48-Leads, Body 12.6x6.2mm, Pitch 0.5mm, IPC Low Density)
footprint DGG0048A_L (TSSOP, 48-Leads, Body 12.6x6.2mm, Pitch 0.5mm, IPC High Density)
part A pins: 1 1OE (in), 2 1Q1 (hiz), 3 1Q2 (hiz), 5 1Q3 (hiz), 6 1Q4 (hiz), 8 1Q5 (hiz), 9 1Q6 (hiz), 11 1Q7 (hiz), 12 1Q8 (hiz), 37 1D8 (in), 38 1D7 (in), 40 1D6 (in), 41 1D5 (in), 43 1D4 (in), 44 1D3 (in), 46 1D2 (in), 47 1D1 (in), 48 1CLK (in)
part B pins: 13 2Q1 (hiz), 14 2Q2 (hiz), 16 2Q3 (hiz), 17 2Q4 (hiz), 19 2Q5 (hiz), 20 2Q6 (hiz), 22 2Q7 (hiz), 23 2Q8 (hiz), 24 2OE (in), 25 2CLK (in), 26 2D8 (in), 27 2D7 (in), 29 2D6 (in), 30 2D5 (in), 32 2D4 (in), 33 2D3 (in), 35 2D2 (in), 36 2D1 (in)
part C pins: 4 GND (power), 7 VCC (power), 10 GND (power), 15 GND (power), 18 VCC (power), 21 GND (power), 28 GND (power), 31 VCC (power), 34 GND (power), 39 GND (power), 42 VCC (power), 45 GND (power)

## SN74ALVCH162721DLR
designator U?
3.3-V 20-Bit Flip-Flop With 3-State Outputs, DL0056A, LARGE T&R; Generic Part Number: SN74ALVCH162721; Manufacturer: Texas Instruments; PartNumber: SN74ALVCH162721DLR; VCC(Min)(V): 1.65; VCC(Max)(V): 3.6; Output Type: LVTTL,CMOS; ICC @ Nom Voltage(Max)(mA): 0.04; Bits(#): 20; F @ Nom Voltage(Max)(Mhz): 150; Rating: Catalog; Technology Family: ALVC; Voltage(Nom)(V): 1.8,2.5,2.7,3.3; Schmitt Trigger: No; Output Drive (IOL/IOH)(Max)(mA): 12/-12; Output Logic: Non-inverted; 3-State Output: Yes; tpd @ Nom Voltage(Max)(ns): 6.7,6.2,5.3; DatasheetVersion: SCES055G; PackageReference: DL0056A; Supplier 1: Digi-Key; Supplier Part Number 1: 296-5204-2-ND; Supplier 2: Digi-Key; Supplier Part Number 2: 296-5204-1-ND; Supplier 3: Digi-Key; Supplier Part Number 3: 296-5204-6-ND; Supplier 4: Mouser; Supplier Part Number 4: 595-74ALVCH162721DLR; Input Type: LVTTL,CMOS; Operating Temperature Range(C): -40 to 85; Code_JEDEC: MO-118; ComponentLink1Description: Manufacturer URL; ComponentLink1URL: http://www.ti.com/; ComponentLink2Description: Datasheet; ComponentLink2URL: http://www.ti.com/lit/ds/symlink/sn74alvch162721.pdf; ComponentLink3Description: Package Specification; ComponentLink3URL: http://www.ti.com/lit/ml/mpds491/mpds491.pdf
footprint DL0056A_N (SOP, 56-Leads, Body 7.6x18.5mm, Pitch 0.635mm, IPC Medium Density)
footprint DL0056A_M (SOP, 56-Leads, Body 7.6x18.5mm, Pitch 0.635mm, IPC Low Density)
footprint DL0056A_L (SOP, 56-Leads, Body 7.6x18.5mm, Pitch 0.635mm, IPC High Density)
part A pins: 1 OE (in), 2 Q1 (hiz), 3 Q2 (hiz), 5 Q3 (hiz), 6 Q4 (hiz), 8 Q5 (hiz), 9 Q6 (hiz), 10 Q7 (hiz), 12 Q8 (hiz), 13 Q9 (hiz), 14 Q10 (hiz), 15 Q11 (hiz), 16 Q12 (hiz), 17 Q13 (hiz), 19 Q14 (hiz), 20 Q15 (hiz), 21 Q16 (hiz), 23 Q17 (hiz), 24 Q18 (hiz), 26 Q19 (hiz), 27 Q20 (hiz), 29 CLKEN (in), 30 D20 (in), 31 D19 (in), 33 D18 (in), 34 D17 (in), 36 D16 (in), 37 D15 (in), 38 D14 (in), 40 D13 (in), 41 D12 (in), 42 D11 (in), 43 D10 (in), 44 D9 (in), 45 D8 (in), 47 D7 (in), 48 D6 (in), 49 D5 (in), 51 D4 (in), 52 D3 (in), 54 D2 (in), 55 D1 (in), 56 CLK (in)
part B pins: 4 GND (power), 7 VCC (power), 11 GND (power), 18 GND (power), 22 VCC (power), 25 GND (power), 28 NC, 32 GND (power), 35 VCC (power), 39 GND (power), 46 GND (power), 50 VCC (power), 53 GND (power)

## SN74ALVCH162721GR
designator U?
3.3-V 20-Bit Flip-Flop With 3-State Outputs, DGG0056A, LARGE T&R; Generic Part Number: SN74ALVCH162721; Manufacturer: Texas Instruments; PartNumber: SN74ALVCH162721GR; VCC(Min)(V): 1.65; VCC(Max)(V): 3.6; Output Type: LVTTL,CMOS; ICC @ Nom Voltage(Max)(mA): 0.04; Bits(#): 20; F @ Nom Voltage(Max)(Mhz): 150; Rating: Catalog; Technology Family: ALVC; Voltage(Nom)(V): 1.8,2.5,2.7,3.3; Schmitt Trigger: No; Output Drive (IOL/IOH)(Max)(mA): 12/-12; Output Logic: Non-inverted; 3-State Output: Yes; tpd @ Nom Voltage(Max)(ns): 6.7,6.2,5.3; DatasheetVersion: SCES055G; PackageReference: DGG0056A; Supplier 1: Digi-Key; Supplier Part Number 1: 296-5205-2-ND; Supplier 2: Digi-Key; Supplier Part Number 2: 296-5205-1-ND; Supplier 3: Digi-Key; Supplier Part Number 3: 296-5205-6-ND; Supplier 4: Mouser; Supplier Part Number 4: 595-74ALVCH162721GR; Input Type: LVTTL,CMOS; Operating Temperature Range(C): -40 to 85; Code_JEDEC: MO-153; ComponentLink1Description: Manufacturer URL; ComponentLink1URL: http://www.ti.com/; ComponentLink2Description: Datasheet; ComponentLink2URL: http://www.ti.com/lit/ds/symlink/sn74alvch162721.pdf; ComponentLink3Description: Package Specification; ComponentLink3URL: http://www.ti.com/lit/ml/mtss003d/mtss003d.pdf
footprint DGG0056A_N (TSSOP, 56-Leads, Body 14.1x6.2mm, Pitch 0.5mm, IPC Medium Density)
footprint DGG0056A_M (TSSOP, 56-Leads, Body 14.1x6.2mm, Pitch 0.5mm, IPC Low Density)
footprint DGG0056A_L (TSSOP, 56-Leads, Body 14.1x6.2mm, Pitch 0.5mm, IPC High Density)
part A pins: 1 OE (in), 2 Q1 (hiz), 3 Q2 (hiz), 5 Q3 (hiz), 6 Q4 (hiz), 8 Q5 (hiz), 9 Q6 (hiz), 10 Q7 (hiz), 12 Q8 (hiz), 13 Q9 (hiz), 14 Q10 (hiz), 15 Q11 (hiz), 16 Q12 (hiz), 17 Q13 (hiz), 19 Q14 (hiz), 20 Q15 (hiz), 21 Q16 (hiz), 23 Q17 (hiz), 24 Q18 (hiz), 26 Q19 (hiz), 27 Q20 (hiz), 29 CLKEN (in), 30 D20 (in), 31 D19 (in), 33 D18 (in), 34 D17 (in), 36 D16 (in), 37 D15 (in), 38 D14 (in), 40 D13 (in), 41 D12 (in), 42 D11 (in), 43 D10 (in), 44 D9 (in), 45 D8 (in), 47 D7 (in), 48 D6 (in), 49 D5 (in), 51 D4 (in), 52 D3 (in), 54 D2 (in), 55 D1 (in), 56 CLK (in)
part B pins: 4 GND (power), 7 VCC (power), 11 GND (power), 18 GND (power), 22 VCC (power), 25 GND (power), 28 NC, 32 GND (power), 35 VCC (power), 39 GND (power), 46 GND (power), 50 VCC (power), 53 GND (power)

## SN74ALVCH162841DL
designator U?
20-Bit Bus-Interface D-Type Latch With 3-State Outputs, DL0056A, TUBE; Generic Part Number: SN74ALVCH162841; Manufacturer: Texas Instruments; PartNumber: SN74ALVCH162841DL; VCC(Min)(V): 1.65; VCC(Max)(V): 3.6; Output Type: LVTTL; ICC @ Nom Voltage(Max)(mA): 0.04; Bits(#): 20; F @ Nom Voltage(Max)(Mhz): 150; Rating: Catalog; Technology Family: ALVC; Voltage(Nom)(V): 1.8,2.5,2.7,3.3; Schmitt Trigger: No; Output Drive (IOL/IOH)(Max)(mA): 12/-12; Output Logic: Non-inverted; 3-State Output: Yes; tpd @ Nom Voltage(Max)(ns): 5.3,5.2,4.3; DatasheetVersion: SCES088E; PackageReference: DL0056A; Supplier 1: Digi-Key; Supplier Part Number 1: 296-5218-5-ND; Supplier 2: Mouser; Supplier Part Number 2: 595-74ALVCH162841DL; Input Type: LVTTL; Operating Temperature Range(C): -40 to 85; Code_JEDEC: MO-118; ComponentLink1Description: Manufacturer URL; ComponentLink1URL: http://www.ti.com/; ComponentLink2Description: Datasheet; ComponentLink2URL: http://www.ti.com/lit/ds/symlink/sn74alvch162841.pdf; ComponentLink3Description: Package Specification; ComponentLink3URL: http://www.ti.com/lit/ml/mpds491/mpds491.pdf
footprint DL0056A_N (SOP, 56-Leads, Body 7.6x18.5mm, Pitch 0.635mm, IPC Medium Density)
footprint DL0056A_M (SOP, 56-Leads, Body 7.6x18.5mm, Pitch 0.635mm, IPC Low Density)
footprint DL0056A_L (SOP, 56-Leads, Body 7.6x18.5mm, Pitch 0.635mm, IPC High Density)
part A pins: 1 1~{OE} (in) "Output Enable Input (Active LOW)", 2 1Q1 (hiz) "Three-State Outputs", 3 1Q2 (hiz) "Three-State Outputs", 5 1Q3 (hiz) "Three-State Outputs", 6 1Q4 (hiz) "Three-State Outputs", 8 1Q5 (hiz) "Three-State Outputs", 9 1Q6 (hiz) "Three-State Outputs", 10 1Q7 (hiz) "Three-State Outputs", 12 1Q8 (hiz) "Three-State Outputs", 13 1Q9 (hiz) "Three-State Outputs", 14 1Q10 (hiz) "Three-State Outputs", 43 1D10 (in) "Data Inputs", 44 1D9 (in) "Data Inputs", 45 1D8 (in) "Data Inputs", 47 1D7 (in) "Data Inputs", 48 1D6 (in) "Data Inputs", 49 1D5 (in) "Data Inputs", 51 1D4 (in) "Data Inputs", 52 1D3 (in) "Data Inputs", 54 1D2 (in) "Data Inputs", 55 1D1 (in) "Data Inputs", 56 1LE (in) "Latch Enable Input (Active HIGH)"
part B pins: 15 2Q1 (hiz) "Three-State Outputs", 16 2Q2 (hiz) "Three-State Outputs", 17 2Q3 (hiz) "Three-State Outputs", 19 2Q4 (hiz) "Three-State Outputs", 20 2Q5 (hiz) "Three-State Outputs", 21 2Q6 (hiz) "Three-State Outputs", 23 2Q7 (hiz) "Three-State Outputs", 24 2Q8 (hiz) "Three-State Outputs", 26 2Q9 (hiz) "Three-State Outputs", 27 2Q10 (hiz) "Three-State Outputs", 28 2~{OE} (in) "Output Enable Input (Active LOW)", 29 2LE (in) "Latch Enable Input (Active HIGH)", 30 2D10 (in) "Data Inputs", 31 2D9 (in) "Data Inputs", 33 2D8 (in) "Data Inputs", 34 2D7 (in) "Data Inputs", 36 2D6 (in) "Data Inputs", 37 2D5 (in) "Data Inputs", 38 2D4 (in) "Data Inputs", 40 2D3 (in) "Data Inputs", 41 2D2 (in) "Data Inputs", 42 2D1 (in) "Data Inputs"
part C pins: 4 GND (power), 7 VCC (power), 11 GND (power), 18 GND (power), 22 VCC (power), 25 GND (power), 32 GND (power), 35 VCC (power), 39 GND (power), 46 GND (power), 50 VCC (power), 53 GND (power)

## SN74ALVCH162841GR
designator U?
20-Bit Bus-Interface D-Type Latch With 3-State Outputs, DGG0056A, LARGE T&R; Generic Part Number: SN74ALVCH162841; Manufacturer: Texas Instruments; PartNumber: SN74ALVCH162841GR; VCC(Min)(V): 1.65; VCC(Max)(V): 3.6; Output Type: LVTTL; ICC @ Nom Voltage(Max)(mA): 0.04; Bits(#): 20; F @ Nom Voltage(Max)(Mhz): 150; Rating: Catalog; Technology Family: ALVC; Voltage(Nom)(V): 1.8,2.5,2.7,3.3; Schmitt Trigger: No; Output Drive (IOL/IOH)(Max)(mA): 12/-12; Output Logic: Non-inverted; 3-State Output: Yes; tpd @ Nom Voltage(Max)(ns): 5.3,5.2,4.3; DatasheetVersion: SCES088E; PackageReference: DGG0056A; Supplier 1: Digi-Key; Supplier Part Number 1: 296-5219-2-ND; Supplier 2: Digi-Key; Supplier Part Number 2: 296-5219-1-ND; Supplier 3: Digi-Key; Supplier Part Number 3: 296-5219-6-ND; Supplier 4: Newark; Supplier Part Number 4: 76C2323; Supplier 5: Mouser; Supplier Part Number 5: 595-74ALVCH162841GR; Input Type: LVTTL; Operating Temperature Range(C): -40 to 85; Code_JEDEC: MO-153; ComponentLink1Description: Manufacturer URL; ComponentLink1URL: http://www.ti.com/; ComponentLink2Description: Datasheet; ComponentLink2URL: http://www.ti.com/lit/ds/symlink/sn74alvch162841.pdf; ComponentLink3Description: Package Specification; ComponentLink3URL: http://www.ti.com/lit/ml/mtss003d/mtss003d.pdf
footprint DGG0056A_N (TSSOP, 56-Leads, Body 14.1x6.2mm, Pitch 0.5mm, IPC Medium Density)
footprint DGG0056A_M (TSSOP, 56-Leads, Body 14.1x6.2mm, Pitch 0.5mm, IPC Low Density)
footprint DGG0056A_L (TSSOP, 56-Leads, Body 14.1x6.2mm, Pitch 0.5mm, IPC High Density)
part A pins: 1 1~{OE} (in) "Output Enable Input (Active LOW)", 2 1Q1 (hiz) "Three-State Outputs", 3 1Q2 (hiz) "Three-State Outputs", 5 1Q3 (hiz) "Three-State Outputs", 6 1Q4 (hiz) "Three-State Outputs", 8 1Q5 (hiz) "Three-State Outputs", 9 1Q6 (hiz) "Three-State Outputs", 10 1Q7 (hiz) "Three-State Outputs", 12 1Q8 (hiz) "Three-State Outputs", 13 1Q9 (hiz) "Three-State Outputs", 14 1Q10 (hiz) "Three-State Outputs", 43 1D10 (in) "Data Inputs", 44 1D9 (in) "Data Inputs", 45 1D8 (in) "Data Inputs", 47 1D7 (in) "Data Inputs", 48 1D6 (in) "Data Inputs", 49 1D5 (in) "Data Inputs", 51 1D4 (in) "Data Inputs", 52 1D3 (in) "Data Inputs", 54 1D2 (in) "Data Inputs", 55 1D1 (in) "Data Inputs", 56 1LE (in) "Latch Enable Input (Active HIGH)"
part B pins: 15 2Q1 (hiz) "Three-State Outputs", 16 2Q2 (hiz) "Three-State Outputs", 17 2Q3 (hiz) "Three-State Outputs", 19 2Q4 (hiz) "Three-State Outputs", 20 2Q5 (hiz) "Three-State Outputs", 21 2Q6 (hiz) "Three-State Outputs", 23 2Q7 (hiz) "Three-State Outputs", 24 2Q8 (hiz) "Three-State Outputs", 26 2Q9 (hiz) "Three-State Outputs", 27 2Q10 (hiz) "Three-State Outputs", 28 2~{OE} (in) "Output Enable Input (Active LOW)", 29 2LE (in) "Latch Enable Input (Active HIGH)", 30 2D10 (in) "Data Inputs", 31 2D9 (in) "Data Inputs", 33 2D8 (in) "Data Inputs", 34 2D7 (in) "Data Inputs", 36 2D6 (in) "Data Inputs", 37 2D5 (in) "Data Inputs", 38 2D4 (in) "Data Inputs", 40 2D3 (in) "Data Inputs", 41 2D2 (in) "Data Inputs", 42 2D1 (in) "Data Inputs"
part C pins: 4 GND (power), 7 VCC (power), 11 GND (power), 18 GND (power), 22 VCC (power), 25 GND (power), 32 GND (power), 35 VCC (power), 39 GND (power), 46 GND (power), 50 VCC (power), 53 GND (power)

## SN74ALVTH16373DL
designator U?
2.5-V/3.3-V 16-Bit Transparent D-Type Latches With 3-State Outputs, DL0048A, TUBE; Generic Part Number: SN74ALVTH16373; Manufacturer: Texas Instruments; PartNumber: SN74ALVTH16373DL; VCC(Min)(V): 2.3; VCC(Max)(V): 3.6; Output Type: TTL; ICC @ Nom Voltage(Max)(mA): 5; Bits(#): 16; F @ Nom Voltage(Max)(Mhz): 250; Rating: Catalog; Technology Family: ALVT; Voltage(Nom)(V): 2.5,3.3; Schmitt Trigger: No; Output Drive (IOL/IOH)(Max)(mA): 64/-32; Output Logic: Non-inverted; 3-State Output: Yes; tpd @ Nom Voltage(Max)(ns): 3.8,3.3; DatasheetVersion: SCES067F; PackageReference: DL0048A; Supplier 1: Digi-Key; Supplier Part Number 1: SN74ALVTH16373DL-ND; Supplier 2: Newark; Supplier Part Number 2: 76C2566; Supplier 3: Mouser; Supplier Part Number 3: 595-SN74ALVTH16373DL; Input Type: TTL; Operating Temperature Range(C): -40 to 85; Code_JEDEC: MO-118; ComponentLink1Description: Manufacturer URL; ComponentLink1URL: http://www.ti.com/; ComponentLink2Description: Datasheet; ComponentLink2URL: http://www.ti.com/lit/ds/symlink/sn74alvth16373.pdf; ComponentLink3Description: Package Specification; ComponentLink3URL: http://www.ti.com/lit/ml/mpds490/mpds490.pdf
footprint DL0048A_N (SOP, 48-Leads, Body 7.6x16mm, Pitch 0.635mm, IPC Medium Density)
footprint DL0048A_M (SOP, 48-Leads, Body 7.6x16mm, Pitch 0.635mm, IPC Low Density)
footprint DL0048A_L (SOP, 48-Leads, Body 7.6x16mm, Pitch 0.635mm, IPC High Density)
part A pins: 1 1~{OE} (in) "Output Enable 1", 2 1Q1 (hiz) "1Q1 Output", 3 1Q2 (hiz) "1Q2 Output", 5 1Q3 (hiz) "1Q3 Output", 6 1Q4 (hiz) "1Q4 Output", 8 1Q5 (hiz) "1Q5 Output", 9 1Q6 (hiz) "1Q6 Output", 11 1Q7 (hiz) "1Q7 Output", 12 1Q8 (hiz) "1Q8 Output", 37 1D8 (in) "1D8 Input", 38 1D7 (in) "1D7 Input", 40 1D6 (in) "1D6 Input", 41 1D5 (in) "1D5 Input", 43 1D4 (in) "1D4 Input", 44 1D3 (in) "1D3 Input", 46 1D2 (in) "1D2 Input", 47 1D1 (in) "1D1 Input", 48 1LE (in) "Latch Enable 1"
part B pins: 13 2Q1 (hiz) "2Q1 Output", 14 2Q2 (hiz) "2Q2 Output", 16 2Q3 (hiz) "2Q3 Output", 17 2Q4 (hiz) "2Q4 Output", 19 2Q5 (hiz) "Output", 20 2Q6 (hiz) "2Q6 Output", 22 2Q7 (hiz) "2Q7 Output", 23 2Q8 (hiz) "2Q8 Output", 24 2~{OE} (in) "Output Enable 2", 25 2LE (in) "2LE Input", 26 2D8 (in) "2D8 Input", 27 2D7 (in) "2D7 Input", 29 2D6 (in) "2D6 Input", 30 2D5 (in) "2D5 Input", 32 2D4 (in) "2D4 Input", 33 2D3 (in) "2D3 Input", 35 2D2 (in) "2D2 Input", 36 2D1 (in) "2D1 Input"
part C pins: 4 GND (power) "Ground Pin", 7 VCC (power) "Power Pin", 10 GND (power) "Ground Pin", 15 GND (power) "Ground Pin", 18 VCC (power) "Power Pin", 21 GND (power) "Ground Pin", 28 GND (power) "Ground Pin", 31 VCC (power) "Power Pin", 34 GND (power) "Ground Pin", 39 GND (power) "Ground Pin", 42 VCC (power) "Power Pin", 45 GND (power) "Ground Pin"

## SN74ALVTH16373DLR
designator U?
2.5-V/3.3-V 16-Bit Transparent D-Type Latches With 3-State Outputs, DL0048A, LARGE T&R; Generic Part Number: SN74ALVTH16373; Manufacturer: Texas Instruments; PartNumber: SN74ALVTH16373DLR; VCC(Min)(V): 2.3; VCC(Max)(V): 3.6; Output Type: TTL; ICC @ Nom Voltage(Max)(mA): 5; Bits(#): 16; F @ Nom Voltage(Max)(Mhz): 250; Rating: Catalog; Technology Family: ALVT; Voltage(Nom)(V): 2.5,3.3; Schmitt Trigger: No; Output Drive (IOL/IOH)(Max)(mA): 64/-32; Output Logic: Non-inverted; 3-State Output: Yes; tpd @ Nom Voltage(Max)(ns): 3.8,3.3; DatasheetVersion: SCES067F; PackageReference: DL0048A; Supplier 1: Digi-Key; Supplier Part Number 1: 296-6305-2-ND; Supplier 2: Digi-Key; Supplier Part Number 2: 296-6305-1-ND; Supplier 3: Digi-Key; Supplier Part Number 3: 296-6305-6-ND; Supplier 4: Mouser; Supplier Part Number 4: 595-SNALVTH16373DLR; Input Type: TTL; Operating Temperature Range(C): -40 to 85; Code_JEDEC: MO-118; ComponentLink1Description: Manufacturer URL; ComponentLink1URL: http://www.ti.com/; ComponentLink2Description: Datasheet; ComponentLink2URL: http://www.ti.com/lit/ds/symlink/sn74alvth16373.pdf; ComponentLink3Description: Package Specification; ComponentLink3URL: http://www.ti.com/lit/ml/mpds490/mpds490.pdf
footprint DL0048A_N (SOP, 48-Leads, Body 7.6x16mm, Pitch 0.635mm, IPC Medium Density)
footprint DL0048A_M (SOP, 48-Leads, Body 7.6x16mm, Pitch 0.635mm, IPC Low Density)
footprint DL0048A_L (SOP, 48-Leads, Body 7.6x16mm, Pitch 0.635mm, IPC High Density)
part A pins: 1 1~{OE} (in) "Output Enable 1", 2 1Q1 (hiz) "1Q1 Output", 3 1Q2 (hiz) "1Q2 Output", 5 1Q3 (hiz) "1Q3 Output", 6 1Q4 (hiz) "1Q4 Output", 8 1Q5 (hiz) "1Q5 Output", 9 1Q6 (hiz) "1Q6 Output", 11 1Q7 (hiz) "1Q7 Output", 12 1Q8 (hiz) "1Q8 Output", 37 1D8 (in) "1D8 Input", 38 1D7 (in) "1D7 Input", 40 1D6 (in) "1D6 Input", 41 1D5 (in) "1D5 Input", 43 1D4 (in) "1D4 Input", 44 1D3 (in) "1D3 Input", 46 1D2 (in) "1D2 Input", 47 1D1 (in) "1D1 Input", 48 1LE (in) "Latch Enable 1"
part B pins: 13 2Q1 (hiz) "2Q1 Output", 14 2Q2 (hiz) "2Q2 Output", 16 2Q3 (hiz) "2Q3 Output", 17 2Q4 (hiz) "2Q4 Output", 19 2Q5 (hiz) "Output", 20 2Q6 (hiz) "2Q6 Output", 22 2Q7 (hiz) "2Q7 Output", 23 2Q8 (hiz) "2Q8 Output", 24 2~{OE} (in) "Output Enable 2", 25 2LE (in) "2LE Input", 26 2D8 (in) "2D8 Input", 27 2D7 (in) "2D7 Input", 29 2D6 (in) "2D6 Input", 30 2D5 (in) "2D5 Input", 32 2D4 (in) "2D4 Input", 33 2D3 (in) "2D3 Input", 35 2D2 (in) "2D2 Input", 36 2D1 (in) "2D1 Input"
part C pins: 4 GND (power) "Ground Pin", 7 VCC (power) "Power Pin", 10 GND (power) "Ground Pin", 15 GND (power) "Ground Pin", 18 VCC (power) "Power Pin", 21 GND (power) "Ground Pin", 28 GND (power) "Ground Pin", 31 VCC (power) "Power Pin", 34 GND (power) "Ground Pin", 39 GND (power) "Ground Pin", 42 VCC (power) "Power Pin", 45 GND (power) "Ground Pin"

## SN74ALVTH16373GR
designator U?
2.5-V/3.3-V 16-Bit Transparent D-Type Latches With 3-State Outputs, DGG0048A, LARGE T&R; Generic Part Number: SN74ALVTH16373; Manufacturer: Texas Instruments; PartNumber: SN74ALVTH16373GR; VCC(Min)(V): 2.3; VCC(Max)(V): 3.6; Output Type: TTL; ICC @ Nom Voltage(Max)(mA): 5; Bits(#): 16; F @ Nom Voltage(Max)(Mhz): 250; Rating: Catalog; Technology Family: ALVT; Voltage(Nom)(V): 2.5,3.3; Schmitt Trigger: No; Output Drive (IOL/IOH)(Max)(mA): 64/-32; Output Logic: Non-inverted; 3-State Output: Yes; tpd @ Nom Voltage(Max)(ns): 3.8,3.3; DatasheetVersion: SCES067F; PackageReference: DGG0048A; Supplier 1: Digi-Key; Supplier Part Number 1: 296-6306-2-ND; Supplier 2: Digi-Key; Supplier Part Number 2: 296-6306-1-ND; Supplier 3: Digi-Key; Supplier Part Number 3: 296-6306-6-ND; Supplier 4: Newark; Supplier Part Number 4: 76C2568; Supplier 5: Mouser; Supplier Part Number 5: 595-SN74ALVTH16373GR; Input Type: TTL; Operating Temperature Range(C): -40 to 85; Code_JEDEC: MO-153; ComponentLink1Description: Manufacturer URL; ComponentLink1URL: http://www.ti.com/; ComponentLink2Description: Datasheet; ComponentLink2URL: http://www.ti.com/lit/ds/symlink/sn74alvth16373.pdf; ComponentLink3Description: Package Specification; ComponentLink3URL: http://www.ti.com/lit/ml/mtss003d/mtss003d.pdf
footprint DGG0048A_N (TSSOP, 48-Leads, Body 12.6x6.2mm, Pitch 0.5mm, IPC Medium Density)
footprint DGG0048A_M (TSSOP, 48-Leads, Body 12.6x6.2mm, Pitch 0.5mm, IPC Low Density)
footprint DGG0048A_L (TSSOP, 48-Leads, Body 12.6x6.2mm, Pitch 0.5mm, IPC High Density)
part A pins: 1 1~{OE} (in) "Output Enable 1", 2 1Q1 (hiz) "1Q1 Output", 3 1Q2 (hiz) "1Q2 Output", 5 1Q3 (hiz) "1Q3 Output", 6 1Q4 (hiz) "1Q4 Output", 8 1Q5 (hiz) "1Q5 Output", 9 1Q6 (hiz) "1Q6 Output", 11 1Q7 (hiz) "1Q7 Output", 12 1Q8 (hiz) "1Q8 Output", 37 1D8 (in) "1D8 Input", 38 1D7 (in) "1D7 Input", 40 1D6 (in) "1D6 Input", 41 1D5 (in) "1D5 Input", 43 1D4 (in) "1D4 Input", 44 1D3 (in) "1D3 Input", 46 1D2 (in) "1D2 Input", 47 1D1 (in) "1D1 Input", 48 1LE (in) "Latch Enable 1"
part B pins: 13 2Q1 (hiz) "2Q1 Output", 14 2Q2 (hiz) "2Q2 Output", 16 2Q3 (hiz) "2Q3 Output", 17 2Q4 (hiz) "2Q4 Output", 19 2Q5 (hiz) "Output", 20 2Q6 (hiz) "2Q6 Output", 22 2Q7 (hiz) "2Q7 Output", 23 2Q8 (hiz) "2Q8 Output", 24 2~{OE} (in) "Output Enable 2", 25 2LE (in) "2LE Input", 26 2D8 (in) "2D8 Input", 27 2D7 (in) "2D7 Input", 29 2D6 (in) "2D6 Input", 30 2D5 (in) "2D5 Input", 32 2D4 (in) "2D4 Input", 33 2D3 (in) "2D3 Input", 35 2D2 (in) "2D2 Input", 36 2D1 (in) "2D1 Input"
part C pins: 4 GND (power) "Ground Pin", 7 VCC (power) "Power Pin", 10 GND (power) "Ground Pin", 15 GND (power) "Ground Pin", 18 VCC (power) "Power Pin", 21 GND (power) "Ground Pin", 28 GND (power) "Ground Pin", 31 VCC (power) "Power Pin", 34 GND (power) "Ground Pin", 39 GND (power) "Ground Pin", 42 VCC (power) "Power Pin", 45 GND (power) "Ground Pin"